# EAGLE library part SS-50C_BOARD_CONNECTOR (library SS-50)
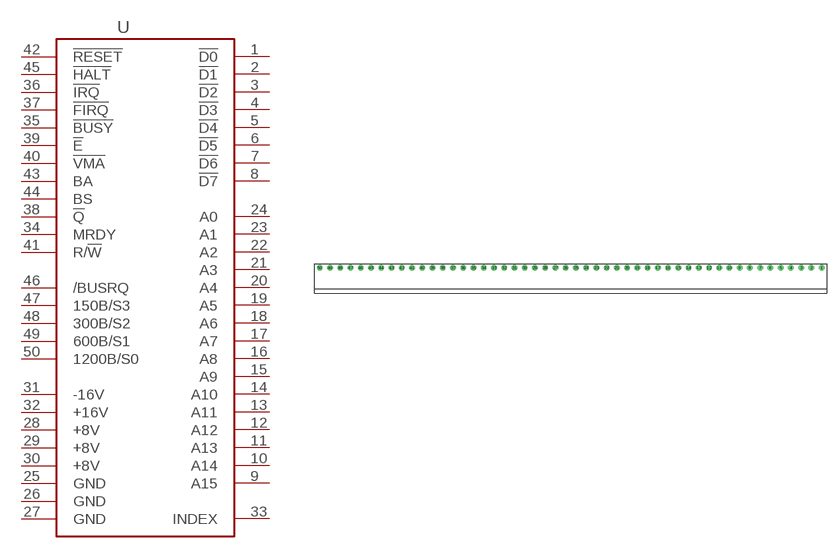
[diagram p2: symbol with the pads of SS-50_BOARD_CONNECTOR; footprint SS-50_BOARD_CONNECTOR]

Designator prefix -

## SS-50C_BOARD_CONNECTOR  [SS-50_BOARD_CONNECTOR]
1  !D0
2  !D1
3  !D2
4  !D3
5  !D4
6  !D5
7  !D6
8  !D7
9  A15
10  A14
11  A13
12  A12
13  A11
14  A10
15  A9
16  A8
17  A7
18  A6
19  A5
20  A4
21  A3
22  A2
23  A1
24  A0
25  GND  pwr
26  GND  pwr
27  GND  pwr
28  +8V  pwr
29  +8V  pwr
30  +8V  pwr
31  -16V  pwr
32  +16V  pwr
33  INDEX  nc
34  MRDY
35  !BUSY
36  !IRQ
37  !FIRQ
38  !Q
39  !E
40  !VMA
41  R/!W
42  !RESET
43  BA
44  BS
45  !HALT
46  /BUSRQ
47  150B/S3
48  300B/S2
49  600B/S1
50  1200B/S0

## Footprint SS-50_BOARD_CONNECTOR (pad centres in mm)
drill 1.524: 1 96.52,3.556; 2 92.558,3.556; 3 88.595,3.556; 4 84.633,3.556; 5 80.67,3.556; 6 76.708,3.556; 7 72.746,3.556; 8 68.783,3.556; 9 64.821,3.556; 10 60.858,3.556; 11 56.896,3.556; 12 52.934,3.556; 13 48.971,3.556; 14 45.009,3.556; 15 41.046,3.556; 16 37.084,3.556; 17 33.122,3.556; 18 29.159,3.556; 19 25.197,3.556; 20 21.234,3.556; 21 17.272,3.556; 22 13.31,3.556; 23 9.347,3.556; 24 5.385,3.556; 25 1.422,3.556; 26 -2.54,3.556; 27 -6.502,3.556; 28 -10.465,3.556; 29 -14.427,3.556; 30 -18.39,3.556; 31 -22.352,3.556; 32 -26.314,3.556; 33 -30.277,3.556; 34 -34.239,3.556; 35 -38.202,3.556; 36 -42.164,3.556; 37 -46.126,3.556; 38 -50.089,3.556; 39 -54.051,3.556; 40 -58.014,3.556; 41 -61.976,3.556; 42 -65.938,3.556; 43 -69.901,3.556; 44 -73.863,3.556; 45 -77.826,3.556; 46 -81.788,3.556; 47 -85.75,3.556; 48 -89.713,3.556; 49 -93.675,3.556; 50 -97.638,3.556